# Altium footprint library PCB1.PcbLib: 36 footprints (part 2 of 3)
Each footprint in its own frame and in the unit in brackets; x right, y up, seen from the top. Pads: shape width x height; smd on the part's side, far side on the other; paste and mask are expansions set on the pad; w line width, h text height; cw(c..) or ccw(c..) is an arc to the next point about the centre after c.
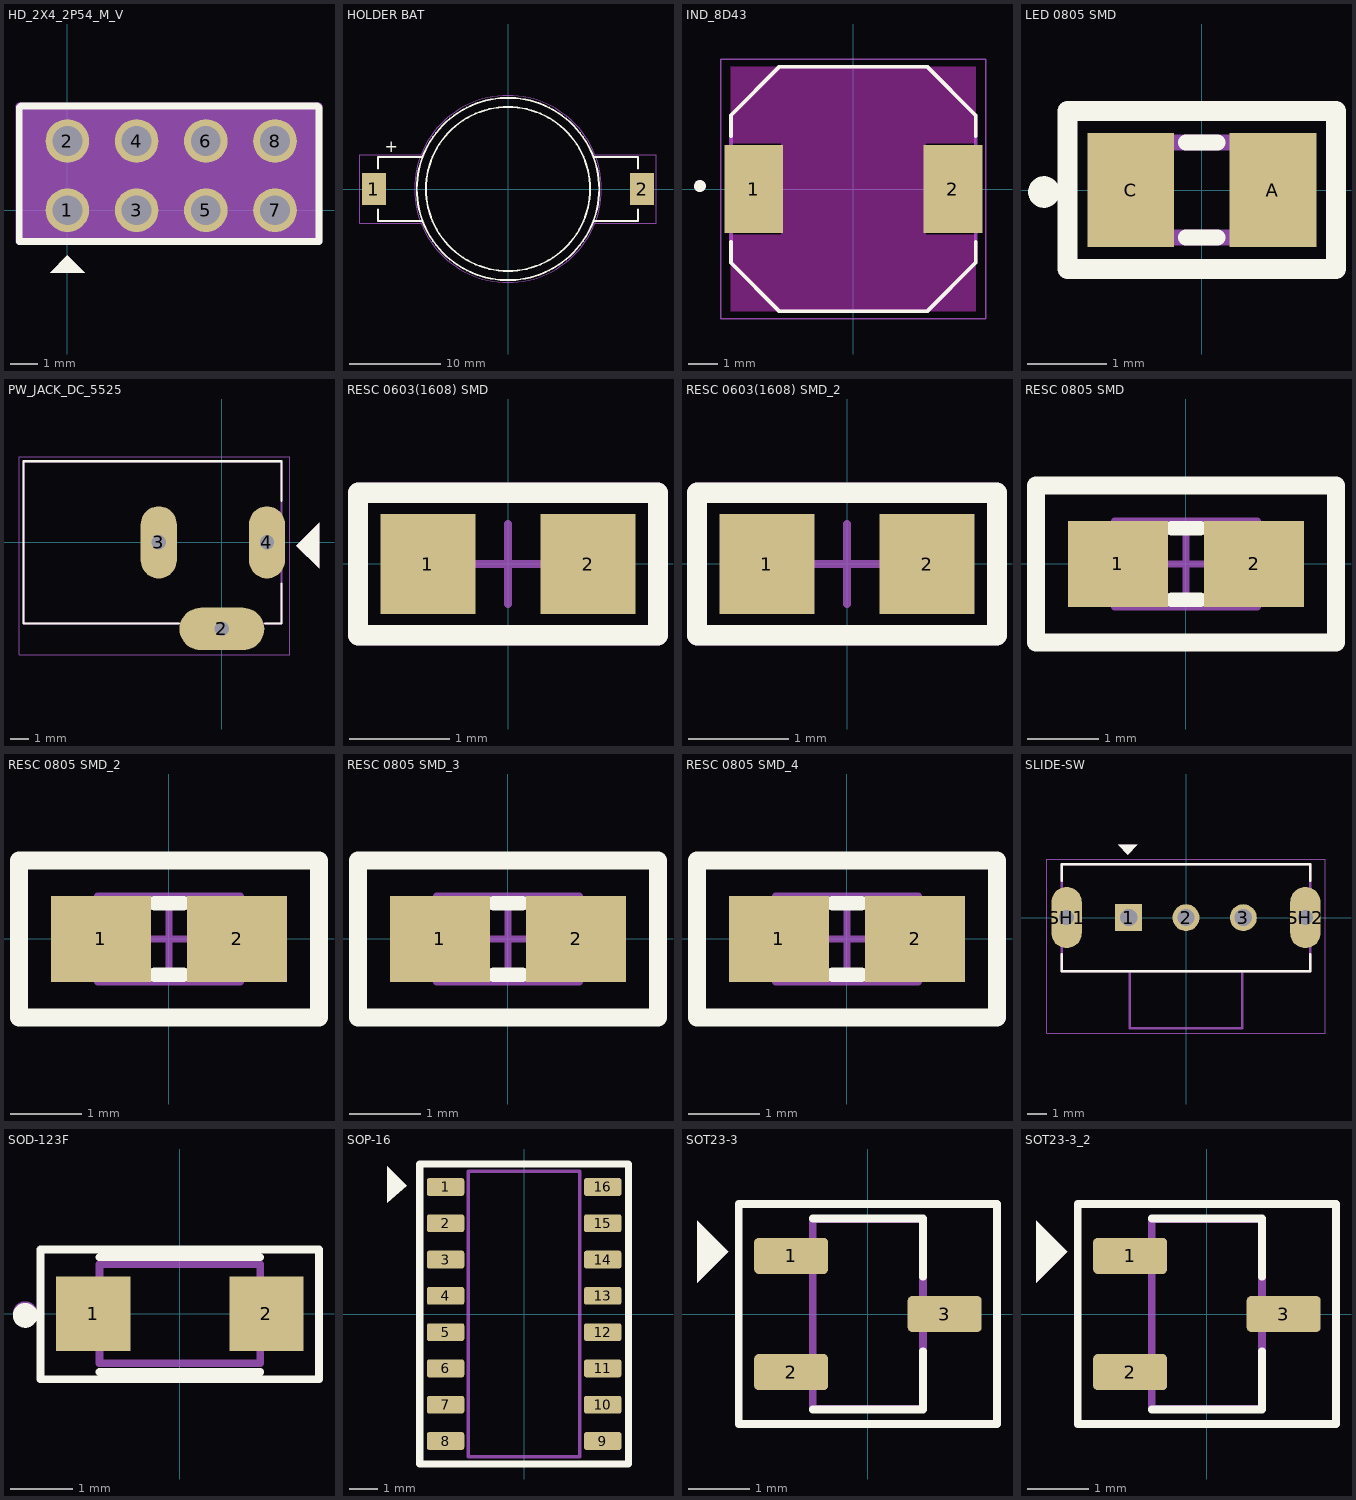
[diagram p1: the footprints below, top view; thin cyan lines are the x and y axes]

## HD_2X4_2P54_M_V [mil]
pads (8):
  round 63 / inner round 60 / far side round 63 hole 43 paste-99999 mask+0: 1(0,0) 2(0,100) 3(100,0) 4(100,100) 5(200,0) 6(200,100) 7(300,0) 8(300,100)
Top Overlay:
  region: -25,-90.02 25,-90.02 0,-65.02
  lines w10: -69.54,-45 363.54,-45 363.54,148.31 361.06,150.79 -67.06,150.79 -69.54,148.31 -69.54,-45
Top 3D Body:
  region: -69.73,-45 -69.73,151.85 363.34,151.85 363.34,-45
Mechanical 13:
  region: -24.81,-90.48 25.19,-90.48 0.19,-65.48
  lines w10: -69.93,-45 363.54,-45 363.54,150.79 -69.93,150.79 -69.93,-45

## HOLDER BAT [mm]
pads (2):
  rect 2.6x3.5 smd paste+0 mask+0.102: 1(-14.7,0) 2(14.7,0)
Top Overlay:
  circle w0.2: c0,0 r9
  circle w0.2: c0,0 r10
  lines w0.2: -14.25,-2.25 -14.25,-3.5 -9.5,-3.5 ; -14.25,2.25 -14.25,3.5 -9.5,3.5 ; 9.5,-3.5 14.25,-3.5 14.25,-2.25 ; 9.5,3.5 14.25,3.5 14.25,2.25
  text "+" at -13.521,4.006 h1.27
Mechanical 15:
  circle w0.05: c0,0 r10.25
  lines w0.05: -9.5,-3.75 -16.25,-3.75 -16.25,3.75 -9.5,3.75 ; 9.5,-3.75 16.25,-3.75 16.25,3.75 9.5,3.75
3D body "BU2032SM-JJ-GTR--3DModel-STEP-1.STEP": height 5.3, standoff 0, extent -15.85,-10 15.85,10

## IND_8D43 [mm]
pads (2):
  rect 2x3 smd: 1(-3.375,0) 2(3.375,0)
Top Overlay:
  circle w0.2: c-5.2,0.1 r0.1
  lines w0.127: -4.15,-1.8 -4.15,-2.5 -2.5,-4.15 2.5,-4.15 4.15,-2.5 4.15,-1.8 ; -4.15,1.8 -4.15,2.5 -2.5,4.15 2.5,4.15 4.15,2.5 4.15,1.8 ; -0.5,4.15 0.5,4.15 ; -0.5,-4.15 0.5,-4.15 -0.5,-4.15
Keep-Out Layer:
  region: 4.15,1.55 2.45,1.55 2.45,-1.55 4.15,-1.55 4.15,-4.15 -4.15,-4.15 -4.15,-1.55 -2.45,-1.55 -2.45,1.55 -4.15,1.55 -4.15,4.15 4.15,4.15
  region: 4.15,1.55 2.45,1.55 2.45,-1.55 4.15,-1.55 4.15,-4.15 -4.15,-4.15 -4.15,-1.55 -2.45,-1.55 -2.45,1.55 -4.15,1.55 -4.15,4.15 4.15,4.15
Mechanical 13:
  circle w0.2: c-5.2,0.1 r0.1
  lines w0.127: -4.15,-2.5 -4.15,2.5 -2.5,4.15 2.5,4.15 4.15,2.5 4.15,-2.5 2.5,-4.15 -2.5,-4.15 -4.15,-2.5
Mechanical 15:
  lines w0.05: -4.5,-4.4 4.5,-4.4 4.5,4.4 -4.5,4.4 -4.5,-4.4
3D body "DEM8045Z-330M=P3.STEP": height 4.5, standoff 0, extent -4.063,-3.873 3.937,4.127

## LED 0805 SMD [mm]
pads (2):
  rect 1.1x1.45 smd: A(0.9,0) C(-0.9,0)
Top Overlay:
  circle w0.2: c-2,-0.025 r0.1
  lines w0.2: -0.2,-0.6 0.2,-0.6 ; -0.2,0.6 0.2,0.6
  lines w0.254: -1.7,-1 -1.7,1 1.7,1 1.7,-1 -1.7,-1
Mechanical 13:
  region: -0.5,-0.6 -1,-0.6 -1,0.6 -0.5,0.6
  region: 1,-0.6 0.5,-0.6 0.5,0.6 1,0.6
  lines w0.2: -1,-0.6 1,-0.6 1,0.6 -1,0.6 -1,-0.6
Mechanical 15:
  lines w0.05: -1.725,-0.975 1.675,-0.975 1.675,1.025 -1.725,1.025 -1.725,-0.975
3D body "step_temp.STEP": height 0.7, standoff 0, extent -1,-0.625 1,0.625

## PW_JACK_DC_5525 [mm]
pads (3):
  oval 4.7x2.35 hole 0.8 square: 2(0,-4.8)
  oval 2x4 hole 0.8 square: 3(-3.5,0) 4(2.5,0)
Top Overlay:
  region: 5.385,1.092 5.385,-1.448 4.115,-0.178
  lines w0.127: -2.4,-4.5 -11,-4.5 -11,4.5 3.3,4.5 3.3,2.3 ; 2.4,-4.5 3.3,-4.5 3.3,-2.3
Mechanical 1:
  region: 5.385,1.092 5.385,-1.448 4.115,-0.178
Mechanical 13:
  lines w0.127: -11,-4.5 3.3,-4.5 3.3,4.5 -11,4.5 -11,-4.5
Mechanical 15:
  lines w0.05: -11.25,-6.23 3.75,-6.23 3.75,4.75 -11.25,4.75 -11.25,-6.23
3D body "DC-005.STEP": height 11, standoff -4.39, extent -11.252,-5.082 3.048,4.318

## RESC 0603(1608) SMD [mm] "Chip Resistor 0603"
height 0.55
pads (2):
  rect 0.95x1 smd: 1(-0.8,0) 2(0.8,0)
Top Overlay:
  lines w0.203: -1.499,-0.711 1.499,-0.711 1.499,0.711 -1.499,0.711 -1.499,-0.711
Mechanical 1:
  lines w0.203: -1.499,-0.711 1.499,-0.711 1.499,0.711 -1.499,0.711 -1.499,-0.711
Top Courtyard:
  lines w0.203: -1.499,-0.711 1.499,-0.711 1.499,0.711 -1.499,0.711 -1.499,-0.711
Top Assembly:
  text ".Designator" at 0,0.188 h1
Top Component Center:
  lines w0.076: -0.4,0 0.4,0 ; 0,-0.4 0,0.4
3D body "STD(0603) M(1608).STEP": height 0.45, standoff 0, extent -0.8,-0.4 0.8,0.4

## RESC 0603(1608) SMD_2 [mm]
pads (2):
  rect 0.95x1 smd: 1(-0.8,0) 2(0.8,0)
Top Overlay:
  lines w0.203: -1.499,-0.711 1.499,-0.711 1.499,0.711 -1.499,0.711 -1.499,-0.711
Mechanical 1:
  lines w0.203: -1.499,-0.711 1.499,-0.711 1.499,0.711 -1.499,0.711 -1.499,-0.711
Top Courtyard:
  lines w0.203: -1.499,-0.711 1.499,-0.711 1.499,0.711 -1.499,0.711 -1.499,-0.711
Top Assembly:
  text ".Designator" at 0,0.188 h1
Top Component Center:
  lines w0.076: -0.4,0 0.4,0 ; 0,-0.4 0,0.4
3D body "STD(0603) M(1608).STEP": height 0.45, standoff 0, extent -0.8,-0.4 0.8,0.4

## RESC 0805 SMD [mm]
height 0.5
pads (2):
  rect 1.4x1.2 smd: 1(-0.955,0) 2(0.955,0)
Top Overlay:
  lines w0.2: -0.2,-0.5 0.2,-0.5 ; -0.2,0.5 0.2,0.5
  lines w0.254: -2.1,-1.1 2.1,-1.1 2.1,1.1 -2.1,1.1 -2.1,-1.1
Top Courtyard:
  lines w0.05: -2.1,-1.1 2.1,-1.1 2.1,1.1 -2.1,1.1 -2.1,-1.1
  lines w0.1: -0.5,0 0.5,0 ; 0,-0.5 0,0.5
Top Assembly:
  lines w0.1: -1,-0.6 1,-0.6 1,0.6 -1,0.6 -1,-0.6
3D body "RESC 0805 SMD .step": height 0.5, standoff 0, extent -1,-0.6 1,0.6

## RESC 0805 SMD_2 [mm]
pads (2):
  rect 1.4x1.2 smd: 1(-0.955,0) 2(0.955,0)
Top Overlay:
  lines w0.2: -0.2,-0.5 0.2,-0.5 ; -0.2,0.5 0.2,0.5
  lines w0.254: -2.1,-1.1 2.1,-1.1 2.1,1.1 -2.1,1.1 -2.1,-1.1
Top Courtyard:
  lines w0.05: -2.1,-1.1 2.1,-1.1 2.1,1.1 -2.1,1.1 -2.1,-1.1
  lines w0.1: -0.5,0 0.5,0 ; 0,-0.5 0,0.5
Top Assembly:
  lines w0.1: -1,-0.6 1,-0.6 1,0.6 -1,0.6 -1,-0.6
3D body "RESC 0805 SMD .step": height 0.5, standoff 0, extent -1,-0.6 1,0.6

## RESC 0805 SMD_3 [mm]
pads (2):
  rect 1.4x1.2 smd: 1(-0.955,0) 2(0.955,0)
Top Overlay:
  lines w0.2: -0.2,-0.5 0.2,-0.5 ; -0.2,0.5 0.2,0.5
  lines w0.254: -2.1,-1.1 -2.1,1.1 2.1,1.1 2.1,-1.1 -2.1,-1.1
Top Courtyard:
  lines w0.05: -2.1,-1.1 -2.1,1.1 2.1,1.1 2.1,-1.1 -2.1,-1.1
  lines w0.1: -0.5,0 0.5,0 ; 0,-0.5 0,0.5
Top Assembly:
  lines w0.1: -1,-0.6 -1,0.6 1,0.6 1,-0.6 -1,-0.6
3D body "RESC 0805 SMD .step": height 0.5, standoff 0, extent -1,-0.6 1,0.6

## RESC 0805 SMD_4 [mm]
pads (2):
  rect 1.4x1.2 smd: 1(-0.955,0) 2(0.955,0)
Top Overlay:
  lines w0.2: -0.2,-0.5 0.2,-0.5 ; -0.2,0.5 0.2,0.5
  lines w0.254: -2.1,-1.1 -2.1,1.1 2.1,1.1 2.1,-1.1 -2.1,-1.1
Top Courtyard:
  lines w0.05: -2.1,-1.1 -2.1,1.1 2.1,1.1 2.1,-1.1 -2.1,-1.1
  lines w0.1: -0.5,0 0.5,0 ; 0,-0.5 0,0.5
Top Assembly:
  lines w0.1: -1,-0.6 -1,0.6 1,0.6 1,-0.6 -1,-0.6
3D body "RESC 0805 SMD .step": height 0.5, standoff 0, extent -1,-0.6 1,0.6

## SLIDE-SW [mm]
pads (5):
  rect 1.408x1.408 / inner round 1.408 / far side rect 1.408x1.408 hole 0.9 mask+0.102: 1(-3,0)
  round 1.408 hole 0.9 mask+0.102: 2(0,0) 3(3,0)
  oval 1.6x3.2 hole 0.8 square mask+0.102: SH1(-6.25,0) SH2(6.25,0)
Top Overlay:
  region: -3.556,3.81 -2.54,3.81 -3.048,3.302
  lines w0.127: -6.5,-1.92 -6.5,-2.8 -2.95,-2.8 2.95,-2.8 6.5,-2.8 6.5,-1.92 ; -6.5,1.92 -6.5,2.8 6.5,2.8 6.5,1.92
Mechanical 13:
  region: -3.556,3.81 -2.54,3.81 -3.048,3.302
  lines w0.127: -2.95,-2.8 -2.95,-5.8 2.95,-5.8 2.95,-2.8 ; -2.95,-2.8 -6.5,-2.8 -6.5,2.8 6.5,2.8 6.5,-2.8 2.95,-2.8 ; -2.95,-2.8 2.95,-2.8
Mechanical 15:
  lines w0.05: -7.3,-6.05 7.3,-6.05 7.3,3.05 -7.3,3.05 -7.3,-6.05
3D body "step_temp.STEP": height 6.04, standoff -2.96, extent -6.5,-5.842 6.5,2.758

## SOD-123F [mm]
pads (2):
  rect 1.2x1.2 smd paste-0.05: 1(-1.4,0) 2(1.4,0)
Top Overlay:
  circle w0.2: c-2.5,-0.027 r0.1
  lines w0.127: -1.3,-0.941 1.3,-0.941 ; -1.3,0.914 1.3,0.914 ; -2.25,-1.06 -2.25,1.04 2.25,1.04 2.25,-1.06 -2.25,-1.06
Mechanical 13:
  circle w0.2: c-2.5,0 r0.1
  lines w0.127: -1.3,-0.8 1.3,-0.8 1.3,0.8 -1.3,0.8 -1.3,-0.8
Mechanical 15:
  lines w0.05: -2.25,-1.05 2.25,-1.05 2.25,1.05 -2.25,1.05 -2.25,-1.05
3D body "step_temp.STEP": height 1.2, standoff 0, extent -1.75,-0.8 1.75,0.8

## SOP-16 [mm]
pads (16):
  rrect25% 1.31x0.62 smd: 1(-2.75,4.445) 2(-2.75,3.175) 3(-2.75,1.905) 4(-2.75,0.635) 5(-2.75,-0.635) 6(-2.75,-1.905) 7(-2.75,-3.175) 8(-2.75,-4.445) 9(2.75,-4.445) 10(2.75,-3.175) 11(2.75,-1.905) 12(2.75,-0.635) 13(2.75,0.635) 14(2.75,1.905) 15(2.75,3.175) 16(2.75,4.445)
Top Overlay:
  region: -4.784,3.895 -4.784,5.165 -4.106,4.487
  lines w0.254: -3.655,-5.25 -3.655,5.25 3.655,5.25 3.655,-5.25 -3.655,-5.25
Mechanical 13:
  lines w0.127: -1.95,-5 -1.95,5 1.95,5 1.95,-5 -1.95,-5
Mechanical 15:
  lines w0.05: -3.655,-5.25 -3.655,5.25 3.655,5.25 3.655,-5.25 -3.655,-5.25
3D body "step_temp.STEP": height 1.8, standoff 0, extent -3,-5 3,5

## SOT23-3 [mm]
pads (3):
  rrect25% 1.21x0.59 smd: 1(-1.255,0.95) 2(-1.255,-0.95) 3(1.255,0)
Top Overlay:
  region: -2.794,1.524 -2.794,0.508 -2.286,1.016
  lines w0.127: -0.9,-1.559 0.9,-1.559 0.9,-0.609 ; -0.9,1.559 0.9,1.559 0.9,0.609 ; -2.11,-1.8 2.11,-1.8 2.11,1.8 -2.11,1.8 -2.11,-1.8
Mechanical 13:
  region: -2.794,1.524 -2.794,0.508 -2.286,1.016
  lines w0.127: -0.9,-1.55 0.9,-1.55 0.9,1.55 -0.9,1.55 -0.9,-1.55
Mechanical 15:
  lines w0.05: -2.11,-1.8 -2.11,1.8 2.11,1.8 2.11,-1.8 -2.11,-1.8
3D body "SOT-23-3L_AOS.step": height 1.25, standoff 0, extent -1.524,-1.524 1.474,1.574

## SOT23-3_2 [mm]
pads (3):
  rrect25% 1.21x0.59 smd: 1(-1.255,0.95) 2(-1.255,-0.95) 3(1.255,0)
Top Overlay:
  region: -2.794,1.524 -2.794,0.508 -2.286,1.016
  lines w0.127: -0.9,-1.559 0.9,-1.559 0.9,-0.609 ; -0.9,1.559 0.9,1.559 0.9,0.609 ; -2.11,-1.8 -2.11,1.8 2.11,1.8 2.11,-1.8 -2.11,-1.8
Mechanical 13:
  region: -2.794,1.524 -2.794,0.508 -2.286,1.016
  lines w0.127: -0.9,-1.55 -0.9,1.55 0.9,1.55 0.9,-1.55 -0.9,-1.55
Mechanical 15:
  lines w0.05: -2.11,-1.8 2.11,-1.8 2.11,1.8 -2.11,1.8 -2.11,-1.8
3D body "SOT-23-3L_AOS.step": height 1.25, standoff 0, extent -1.524,-1.524 1.474,1.574